# EAGLE library part SLG46625A (library GREENPAK)
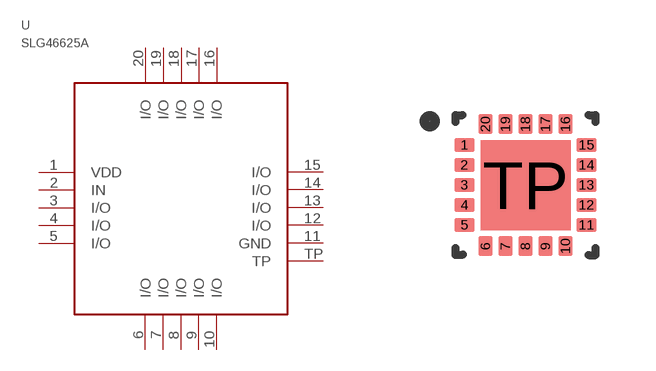
[diagram p55: symbol with the pads of STQFN-20-3.5X3.5-A; footprint STQFN-20-3.5X3.5-A]

Designator prefix -

## SLG46625A  [STQFN-20-3.5X3.5-A]
1  VDD
2  IN
3  I/O
4  I/O
5  I/O
6  I/O
7  I/O
8  I/O
9  I/O
10  I/O
11  GND
12  I/O
13  I/O
14  I/O
15  I/O
16  I/O
17  I/O
18  I/O
19  I/O
20  I/O
TP  TP

## Footprint STQFN-20-3.5X3.5-A (pad centres in mm)
smd 0.5 x 0.35: 1 -1.523,0.986; 2 -1.523,0.486; 3 -1.523,-0.014; 4 -1.523,-0.514; 5 -1.523,-1.014; 11 1.527,-1.014; 12 1.527,-0.514; 13 1.527,-0.014; 14 1.527,0.486; 15 1.527,0.986
smd 0.35 x 0.5: 6 -0.998,-1.539; 7 -0.498,-1.539; 8 0.002,-1.539; 9 0.502,-1.539; 10 1.002,-1.539; 16 1.002,1.511; 17 0.502,1.511; 18 0.002,1.511; 19 -0.498,1.511; 20 -0.998,1.511
smd 2.25 x 2.25: TP 0.002,-0.014